# EAGLE library part SI3050-E-FT (library SiLabs3050-18)
Silicon Labs Si3050
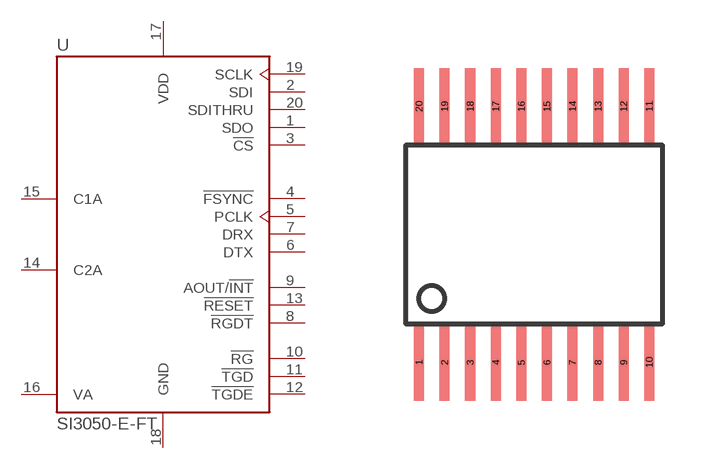
[diagram p0: symbol with the pads of TSSOP-20; footprint TSSOP-20]

Designator prefix -

## SI3050-E-FT  [TSSOP-20]
1  SDO  out
2  SDI  in
3  !CS  in
4  !FSYNC  in
5  PCLK  in
6  DTX  out
7  DRX  in
8  !RGDT  out
9  AOUT/!INT  out
10  !RG  out
11  !TGD  out
12  !TGDE  out
13  !RESET  in
14  C2A
15  C1A
16  VA
17  VDD  pwr
18  GND  pwr
19  SCLK  in
20  SDITHRU  out

## Footprint TSSOP-20 (pad centres in mm)
smd 0.25 x 1.92: 1 -3.2,-2.88; 2 -2.56,-2.88; 3 -1.92,-2.88; 4 -1.28,-2.88; 5 -0.64,-2.88; 6 0,-2.88; 7 0.64,-2.88; 8 1.28,-2.88; 9 1.92,-2.88; 10 2.56,-2.88; 11 2.56,3.52; 12 1.92,3.52; 13 1.28,3.52; 14 0.64,3.52; 15 0,3.52; 16 -0.64,3.52; 17 -1.28,3.52; 18 -1.92,3.52; 19 -2.56,3.52; 20 -3.2,3.52